# Altium footprint library AntenaLib.PcbLib: 1 footprints
Each footprint in its own frame and in the unit in brackets; x right, y up, seen from the top. Pads: shape width x height; smd on the part's side, far side on the other; paste and mask are expansions set on the pad; w line width, h text height; cw(c..) or ccw(c..) is an arc to the next point about the centre after c.
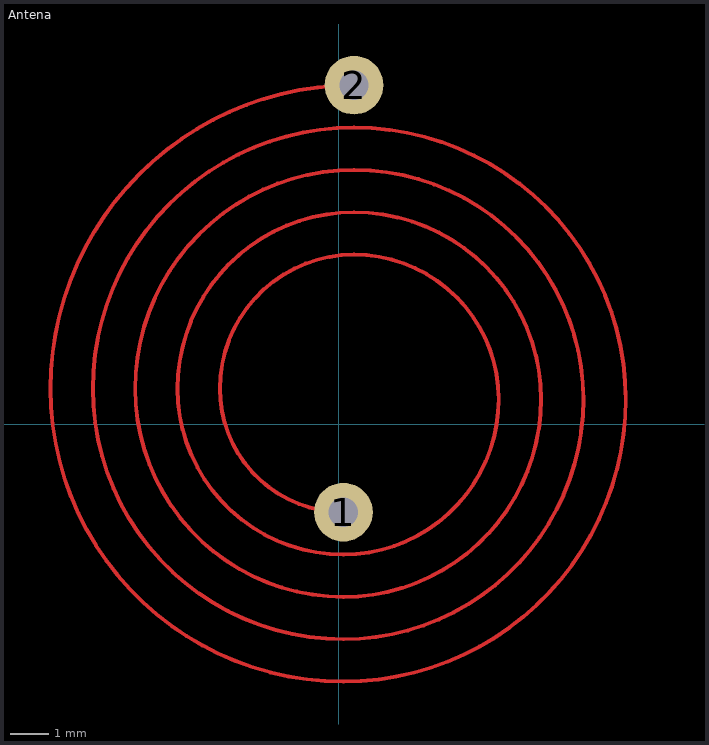
[diagram p0: the footprint, top view; thin cyan lines are the x and y axes]

## Antena [mil] "Antena"
pads (2):
  round 60 hole 30: 1(5,-90) 2(15.83,346.65)
Top Layer:
  lines w3.94: 5,-90 cw(c5,36.3) -121.3,36.3 cw(c15.83,36.3) 15.83,173.42 cw(c15.83,25.47) 163.78,25.47 cw(c5,25.47) 5,-133.31 cw(c5,36.3) -164.61,36.3 cw(c15.83,36.3) 15.83,216.73 cw(c15.83,25.47) 207.09,25.47 cw(c5,25.47) 5,-176.61 cw(c5,36.3) -207.91,36.3 cw(c15.83,36.3) 15.83,260.04 cw(c15.83,25.47) 250.39,25.47 cw(c5,25.47) 5,-219.92 cw(c5,36.3) -251.22,36.3 cw(c15.83,36.3) 15.83,303.35 cw(c15.83,25.47) 293.7,25.47 cw(c5,25.47) 5,-263.23 cw(c5,36.3) -294.53,36.3 cw(c15.83,36.3) 15.83,346.65